# Altium footprint library Wurth_Elektronik_Passive_rev16a.PCBLIB: 810 footprints (part 28 of 51)
Each footprint in its own frame and in the unit in brackets; x right, y up, seen from the top. Pads: shape width x height; smd on the part's side, far side on the other; paste and mask are expansions set on the pad; w line width, h text height; cw(c..) or ccw(c..) is an arc to the next point about the centre after c.
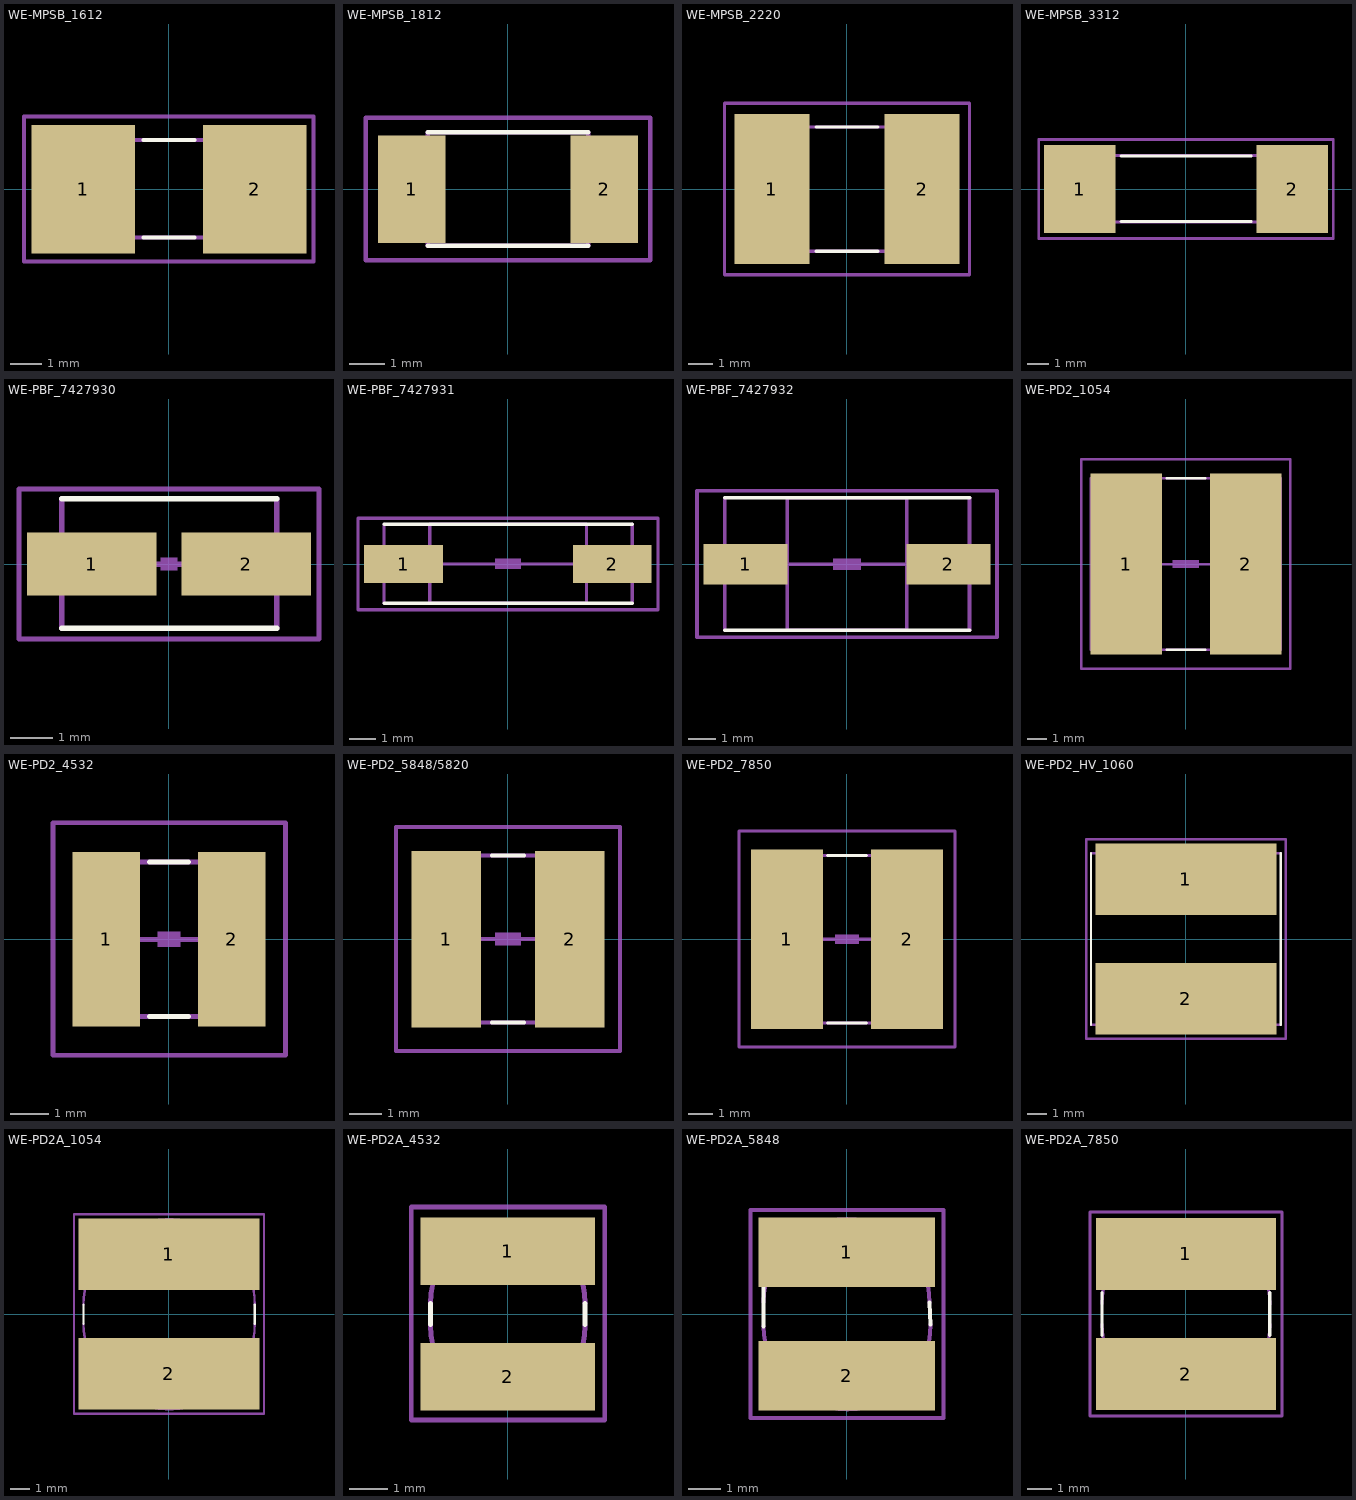
[diagram p27: the footprints below, top view; thin cyan lines are the x and y axes]

## WE-MPSB_1612 [mil]
pads (2):
  rect 129x160 smd: 1(-106,0) 2(107,0)
Top Overlay:
  lines w5: -31.5,-60.04 32,-60.04 ; -31.5,61 32,61
Mechanical 2:
  text ">NAME" at -186.24,136 h77.5
Mechanical 4:
  text ">VALUE" at -186.24,-155.41 h77.5
Mechanical 16:
  lines w5: -79.92,-60.04 -79.92,61 80,61 80,-60.04 -79.92,-60.04
Mechanical 27:
  lines w5: -179.92,-89.76 -179.92,90 180,90 180,-89.76 -179.92,-89.76

## WE-MPSB_1812 [mil]
pads (2):
  rect 75x119 smd: 1(-106.3,0) 2(107,0)
Top Overlay:
  lines w5: -88.58,-62.99 89,-62.99 ; -88.58,63 89,63
Mechanical 2:
  text ">NAME" at -92.81,-119.69 h37.2
Mechanical 4:
  text ">VALUE" at -92.81,95 h37.2
Mechanical 16:
  lines w5: -88.58,-62.99 -88.58,63 89,63 89,-62.99 -88.58,-62.99
Mechanical 27:
  lines w5: -157.48,-78.74 -157.48,79 158,79 158,-78.74 -157.48,-78.74

## WE-MPSB_2220 [mil]
pads (2):
  rect 121x241 smd: 1(-120.67,0) 2(121,0)
Top Overlay:
  lines w5: -50,-100 50,-100 ; -50,100 50,100
Mechanical 2:
  text ">NAME" at -191.67,176 h77.5
Mechanical 4:
  text ">VALUE" at -191.67,-245.72 h77.5
Mechanical 16:
  lines w5: -110.04,-100 -110.04,100 111,100 111,-100 -110.04,-100
Mechanical 27:
  lines w5: -196.85,-137.8 -196.85,138 197,138 197,-137.8 -196.85,-137.8

## WE-MPSB_3312 [mil]
pads (2):
  rect 130x160 smd: 1(-192.52,0) 2(193,0)
Top Overlay:
  lines w5: -118.11,-59.06 119,-59.06 ; -118.11,60 119,60
Mechanical 2:
  text ">NAME" at -372.91,186 h77.5
Mechanical 4:
  text ">VALUE" at -372.91,-255.41 h77.5
Mechanical 16:
  lines w5: -167.32,-60.04 -167.32,61 168,61 168,-60.04 -167.32,-60.04
Mechanical 27:
  lines w5: -267.32,-89.76 -267.32,90 268,90 268,-89.76 -267.32,-89.76

## WE-PBF_7427930 [mil]
pads (2):
  rect 119x58 smd: 1(-70.87,0) 2(71,0)
Top Overlay:
  lines w5: -98.43,-59.06 99,-59.06 ; -98.43,60 99,60
Mechanical 2:
  text ">NAME" at -137.8,-163.39 h77.5
Mechanical 4:
  text ">VALUE" at -137.8,117 h77.5
Mechanical 16:
  rectangle: -7.87,-5.91 8,6
  lines w5: -98.43,-59.06 -98.43,60 ; -59.06,0 60,0 ; 99,-59.06 99,60
Mechanical 27:
  lines w5: -137.8,-68.9 -137.8,69 138,69 138,-68.9 -137.8,-68.9

## WE-PBF_7427931 [mil]
pads (2):
  rect 119x58 smd: 1(-157.48,0) 2(158,0)
Top Overlay:
  lines w5: -187.01,-59.06 188,-59.06 ; -187.01,60 188,60
Mechanical 2:
  text ">NAME" at -181.1,-167.32 h77.5
Mechanical 4:
  text ">VALUE" at -185.04,111 h77.5
Mechanical 10:
  lines w5: -118.11,-59.06 -118.11,60 119,60 119,-59.06 -118.11,-59.06
Mechanical 16:
  rectangle: -19.68,-7.87 20,8
  lines w5: -187.01,-59.06 -187.01,60 ; -149.61,0 150,0 ; 188,-59.06 188,60
Mechanical 27:
  lines w5: -226.38,-68.9 -226.38,69 227,69 227,-68.9 -226.38,-68.9

## WE-PBF_7427932 [mil]
pads (2):
  rect 119x58 smd: 1(-143.7,0) 2(144,0)
Top Overlay:
  lines w5: -173.23,-93.5 174,-93.5 ; -173.23,94 174,94
Mechanical 2:
  text ">NAME" at -122.05,-163.39 h77.5
Mechanical 4:
  text ">VALUE" at -129.92,115 h77.5
Mechanical 10:
  lines w5: -84.65,-93.5 -84.65,94 85,94 85,-93.5 -84.65,-93.5
Mechanical 16:
  rectangle: -19.68,-7.87 20,8
  lines w5: -173.23,-93.5 -173.23,94 ; -137.8,0 138,0 ; 174,-93.5 174,94
Mechanical 27:
  lines w5: -212.6,-103.35 -212.6,104 213,104 213,-103.35 -212.6,-103.35

## WE-PD2_1054 [mil]
pads (2):
  rect 148x375 smd: 1(-123.03,0) 2(124,0)
Top Overlay:
  lines w5: -39.37,-177.17 40,-177.17 ; -39.37,178 40,178
Mechanical 2:
  text ">NAME" at -189.37,-269.69 h77.5
Mechanical 4:
  text ">VALUE" at -189.37,240 h77.5
Mechanical 16:
  region: 27.84,-7.72 27.84,8.16 -27.72,8.16 -27.72,-7.72
  lines w5: -123.03,0 124,0 ; -196.85,-177.17 197,-177.17 197,178 -196.85,178 -196.85,-177.17
Mechanical 27:
  lines w5: -216.54,-216.54 -216.54,217 217,217 217,-216.54 -216.54,-216.54

## WE-PD2_4532 [mil]
pads (2):
  rect 69x178 smd: 1(-63.98,0) 2(64,0)
Top Overlay:
  lines w5: -19.68,-78.74 20,-78.74 ; -19.68,79 20,79
Mechanical 2:
  text ">NAME" at -119.69,-189.37 h77.5
Mechanical 4:
  text ">VALUE" at -119.69,140 h77.5
Mechanical 16:
  region: 11.97,-7.84 11.97,8.03 -11.84,8.03 -11.84,-7.84
  lines w5: -92.62,-78.74 -92.62,79 ; -88.58,-78.74 89,-78.74 ; -88.58,79 89,79 ; -63.98,0 64,0 ; 93,-78.74 93,79
Mechanical 27:
  lines w5: -118.11,-118.11 -118.11,119 119,119 119,-118.11 -118.11,-118.11

## WE-PD2_5848/5820 [mil]
pads (2):
  rect 85x217 smd: 1(-75.79,0) 2(76,0)
Top Overlay:
  lines w5: -19.68,-102.36 20,-102.36 ; -19.68,103 20,103
Mechanical 2:
  text ">NAME" at -144.69,-214.37 h77.5
Mechanical 4:
  text ">VALUE" at -144.69,165 h77.5
Mechanical 16:
  region: 15.94,-7.81 15.94,8.06 -15.81,8.06 -15.81,-7.81
  lines w5: -75.79,0 76,0 ; -114.17,-102.36 115,-102.36 115,103 -114.17,103 -114.17,-102.36
Mechanical 27:
  lines w5: -137.8,-137.8 -137.8,138 138,138 138,-137.8 -137.8,-137.8

## WE-PD2_7850 [mil]
pads (2):
  rect 119x296 smd: 1(-98.43,0) 2(99,0)
Top Overlay:
  lines w5: -31.5,-137.8 32,-137.8 ; -31.5,138 32,138
Mechanical 2:
  text ">NAME" at -150,-225 h77.5
Mechanical 4:
  text ">VALUE" at -150,175 h77.5
Mechanical 16:
  region: 19.91,-7.78 19.91,8.09 -19.78,8.09 -19.78,-7.78
  lines w5: -98.43,0 99,0 ; -153.54,-137.8 154,-137.8 154,138 -153.54,138 -153.54,-137.8
Mechanical 27:
  lines w5: -177.17,-177.17 -177.17,178 178,178 178,-177.17 -177.17,-177.17

## WE-PD2_HV_1060 [mil]
pads (2):
  rect 375x148 smd: 1(0,124) 2(0,-123.03)
Top Overlay:
  lines w5: -196.85,-177.17 -196.85,178 ; 197,-177.17 197,178
Mechanical 2:
  text ">NAME" at -200,250 h77.5
Mechanical 4:
  text ">VALUE" at -200,-300 h77.5
Mechanical 16:
  lines w5: -196.85,-177.17 197,-177.17 ; -196.85,178 197,178
Mechanical 27:
  lines w5: -206.69,-206.69 207,-206.69 207,207 -206.69,207 -206.69,-206.69

## WE-PD2A_1054 [mil]
pads (2):
  rect 375x148 smd: 1(0,124) 2(0,-123.03)
Top Overlay:
  lines w5: -177.17,-19.68 -177.17,20 ; 178,-19.68 178,20
Mechanical 2:
  text ">NAME" at -200,250 h77.5
Mechanical 4:
  text ">VALUE" at -200,-300 h77.5
Mechanical 16:
  lines w5: -177.17,-19.68 ccw(c0.42,-19.68) 178,-19.69 ; -177.17,20 cw(c0.42,20) 178,20
Mechanical 27:
  lines w5: -196.85,-206.69 197,-206.69 197,207 -196.85,207 -196.85,-206.69

## WE-PD2A_4532 [mil]
pads (2):
  rect 178x69 smd: 1(0,64) 2(0,-63.98)
Top Overlay:
  lines w5: -78.74,-10.63 -78.74,11 ; 79,-10.63 79,11
Mechanical 2:
  text ">NAME" at -100,150 h77.5
Mechanical 4:
  text ">VALUE" at -100,-200 h77.5
Mechanical 16:
  lines w5: -78.74,-12.2 ccw(c0.13,-12.2) 79,-12.2 ; -78.74,11 cw(c0.13,11.2) 79,11
Mechanical 27:
  lines w5: -98.43,-108.27 99,-108.27 99,109 -98.43,109 -98.43,-108.27

## WE-PD2A_5848 [mil]
pads (2):
  rect 217x85 smd: 1(0,76) 2(0,-75.79)
Top Overlay:
  lines w5: -102.36,-14.96 -102.36,15 -102.36,34 ; 102,14 103,-12.99
Mechanical 2:
  text ">NAME" at -100,150 h77.5
Mechanical 4:
  text ">VALUE" at -100,-200 h77.5
Mechanical 16:
  lines w5: -102.36,-14.96 ccw(c0.32,-14.37) 103,-12.99 ; -102.36,15 cw(c-0.18,14.7) 102,14
Mechanical 27:
  lines w5: -118.11,-127.95 119,-127.95 119,128 -118.11,128 -118.11,-127.95

## WE-PD2A_7850 [mil]
pads (2):
  rect 296x119 smd: 1(0,99) 2(0,-98.43)
Top Overlay:
  lines w5: -137.8,-35.43 -137.8,-16.14 -137.8,17 -137.8,36 ; 138,-35.43 138,-16.14 138,16 138,36
Mechanical 2:
  text ">NAME" at -150,200 h77.5
Mechanical 4:
  text ">VALUE" at -150,-250 h77.5
Mechanical 16:
  lines w5: -137.8,-16.14 ccw(c0.1,-16.54) 138,-16.14 ; -137.8,17 cw(c0.1,16.89) 138,16
Mechanical 27:
  lines w5: -157.48,-167.32 158,-167.32 158,168 -157.48,168 -157.48,-167.32